# Altium schematic symbol library My_Schlib1.SchLib: 26 symbols
Pins are listed as number, name and electrical type; pins without a type are passive.

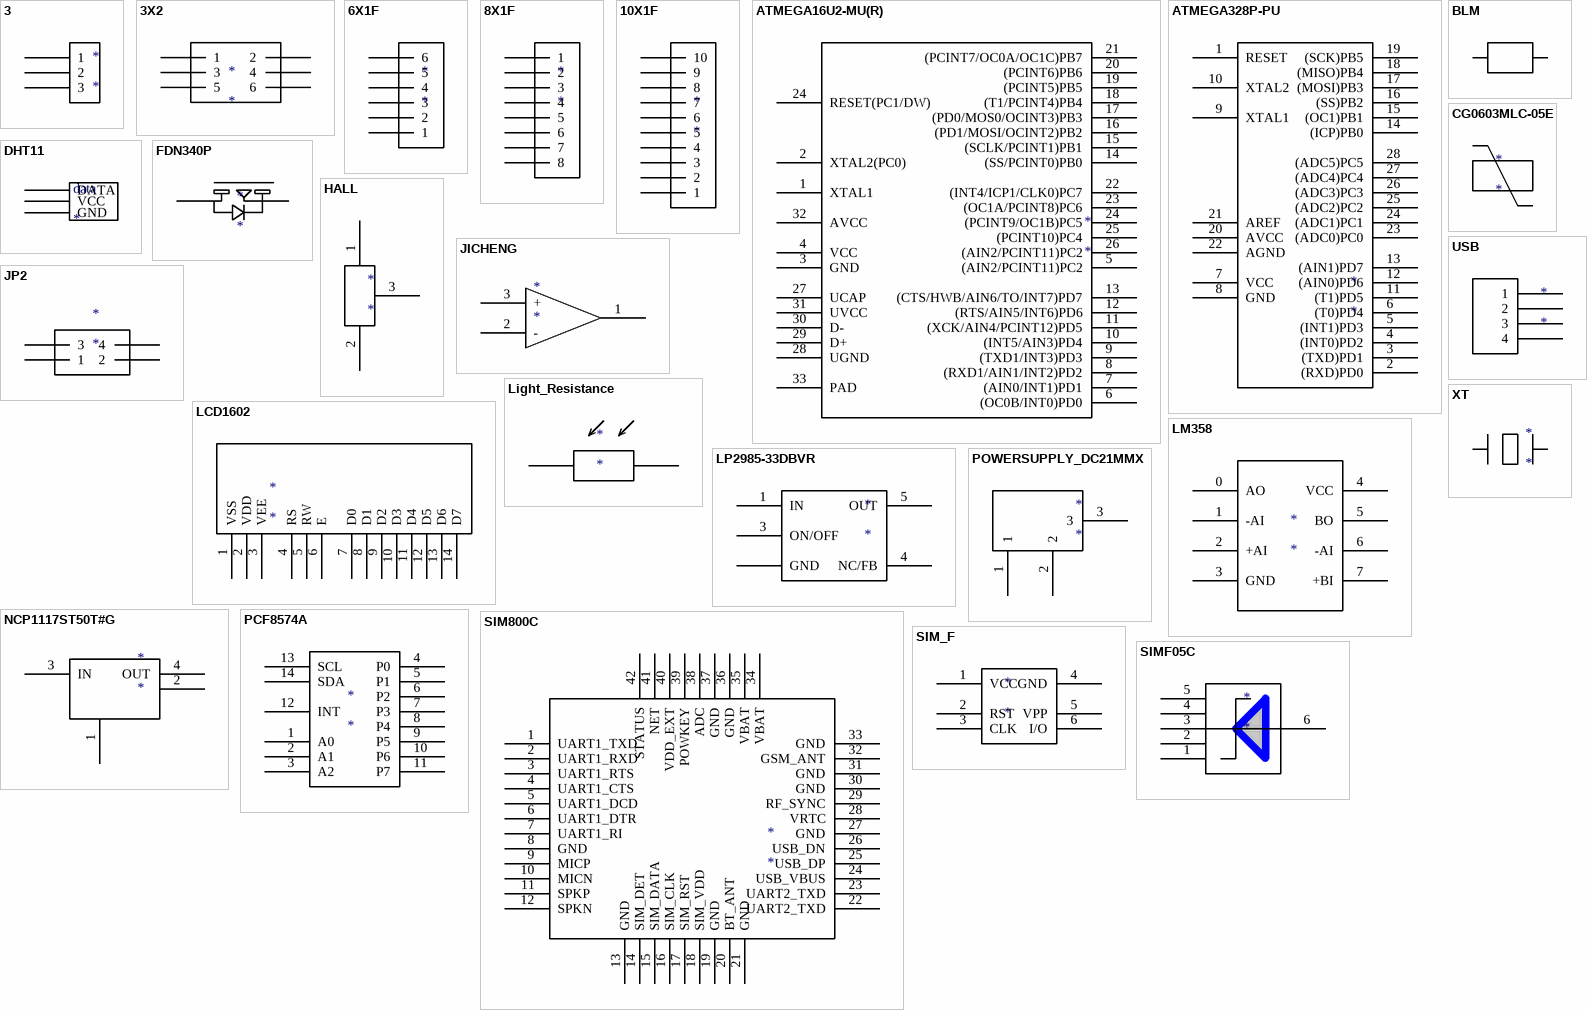
[diagram p0: symbols 3 to XT]

## 3
designator *
pins: 1, 2, 3

## 3X2
designator *
pins: 2 1, 3 2, 4 3, 5 4, 6 5, 7 6

## 6X1F
designator *
pins: 1, 2, 3, 4, 5, 6

## 8X1F
designator *
pins: 5 1, 6 2, 7 3, 8 4, 9 5, 10 6, 11 7, 12 8

## 10X1F
designator *
pins: 1, 2, 3, 4, 5, 6, 7, 8, 9, 10

## ATMEGA16U2-MU(R)
designator *
pins: 1 XTAL1, 2 XTAL2(PC0), 3 GND, 4 VCC, 5 (AIN2/PCINT11)PC2, 6 (OC0B/INT0)PD0, 7 (AIN0/INT1)PD1, 8 (RXD1/AIN1/INT2)PD2, 9 (TXD1/INT3)PD3, 10 (INT5/AIN3)PD4, 11 (XCK/AIN4/PCINT12)PD5, 12 (RTS/AIN5/INT6)PD6, 13 (CTS/HWB/AIN6/TO/INT7)PD7, 14 (SS/PCINT0)PB0, 15 (SCLK/PCINT1)PB1, 16 (PD1/MOSI/OCINT2)PB2, 17 (PD0/MOS0/OCINT3)PB3, 18 (T1/PCINT4)PB4, 19 (PCINT5)PB5, 20 (PCINT6)PB6, 21 (PCINT7/OC0A/OC1C)PB7, 22 (INT4/ICP1/CLK0)PC7, 23 (OC1A/PCINT8)PC6, 24 (PCINT9/OC1B)PC5, 24 RESET(PC1/DW), 25 (PCINT10)PC4, 26 (AIN2/PCINT11)PC2, 27 UCAP, 28 UGND, 29 D+, 30 D-, 31 UVCC, 32 AVCC, 33 PAD

## ATMEGA328P-PU
designator *
pins: 1 RESET, 2 (RXD)PD0, 3 (TXD)PD1, 4 (INT0)PD2, 5 (INT1)PD3, 6 (T0)PD4, 7 VCC, 8 GND, 9 XTAL1, 10 XTAL2, 11 (T1)PD5, 12 (AIN0)PD6, 13 (AIN1)PD7, 14 (ICP)PB0, 15 (OC1)PB1, 16 (SS)PB2, 17 (MOSI)PB3, 18 (MISO)PB4, 19 (SCK)PB5, 20 AVCC, 21 AREF, 22 AGND, 23 (ADC0)PC0, 24 (ADC1)PC1, 25 (ADC2)PC2, 26 (ADC3)PC3, 27 (ADC4)PC4, 28 (ADC5)PC5

## BLM
designator *  (value not drawn)

## CG0603MLC-05E
designator *

## DHT11
designator data
pins: 17 DATA, 18 VCC, 19 GND

## FDN340P
designator *
pins: 14, 15, 16

## HALL
designator *
pins: 1 7, 2 8, 3 9

## JICHENG
designator *
pins: 1 13, 2 -, 3 +

## JP2
designator *
pins: 2 1, 3 2, 4 3, 5 4

## LCD1602
designator *
pins: 1 VSS, 2 VDD, 3 VEE, 4 RS, 5 RW, 6 E, 7 D0, 8 D1, 9 D2, 10 D3, 11 D4, 12 D5, 13 D6, 14 D7

## Light_Resistance
designator *
pins: 8, 9

## LM358
designator *
pins: 0 AO, 1 -AI, 2 +AI, 3 GND, 4 VCC, 5 BO, 6 -AI, 7 +BI

## LP2985-33DBVR
designator *
pins: 1 IN, 2 GND, 3 ON/OFF, 4 NC/FB, 5 OUT

## NCP1117ST50T#G
designator *
pins: 1 5, 2 6, 3 IN, 4 OUT

## PCF8574A
designator *
pins: 1 A0, 2 A1, 3 A2, 4 P0, 5 P1, 6 P2, 7 P3, 8 P4, 9 P5, 10 P6, 11 P7, 12 INT, 13 SCL, 14 SDA

## POWERSUPPLY_DC21MMX
designator *
pins: 1, 2, 3

## SIM800C
designator *
pins: 1 UART1_TXD, 2 UART1_RXD, 3 UART1_RTS, 4 UART1_CTS, 5 UART1_DCD, 6 UART1_DTR, 7 UART1_RI, 8 GND, 9 MICP, 10 MICN, 11 SPKP, 12 SPKN, 13 GND, 14 SIM_DET, 15 SIM_DATA, 16 SIM_CLK, 17 SIM_RST, 18 SIM_VDD, 19 GND, 20 BT_ANT, 21 GND, 22 UART2_TXD, 23 UART2_TXD, 24 USB_VBUS, 25 USB_DP, 26 USB_DN, 27 GND, 28 VRTC, 29 RF_SYNC, 30 GND, 31 GND, 32 GSM_ANT, 33 GND, 34 VBAT, 35 VBAT, 36 GND, 37 GND, 38 ADC, 39 POWKEY, 40 VDD_EXT, 41 NET, 42 STATUS

## SIM_F
designator *
pins: 1 VCC, 2 RST, 3 CLK, 4 GND, 5 VPP, 6 I/O

## SIMF05C
designator *
pins: 1, 2, 3, 4, 5, 6

## USB
designator *
pins: 8 1, 9 2, 10 3, 11 4

## XT
designator *